# Altium schematic symbol library rtc_circuits.SchLib: 12 symbols
Pins are listed as number, name and electrical type; pins without a type are passive.

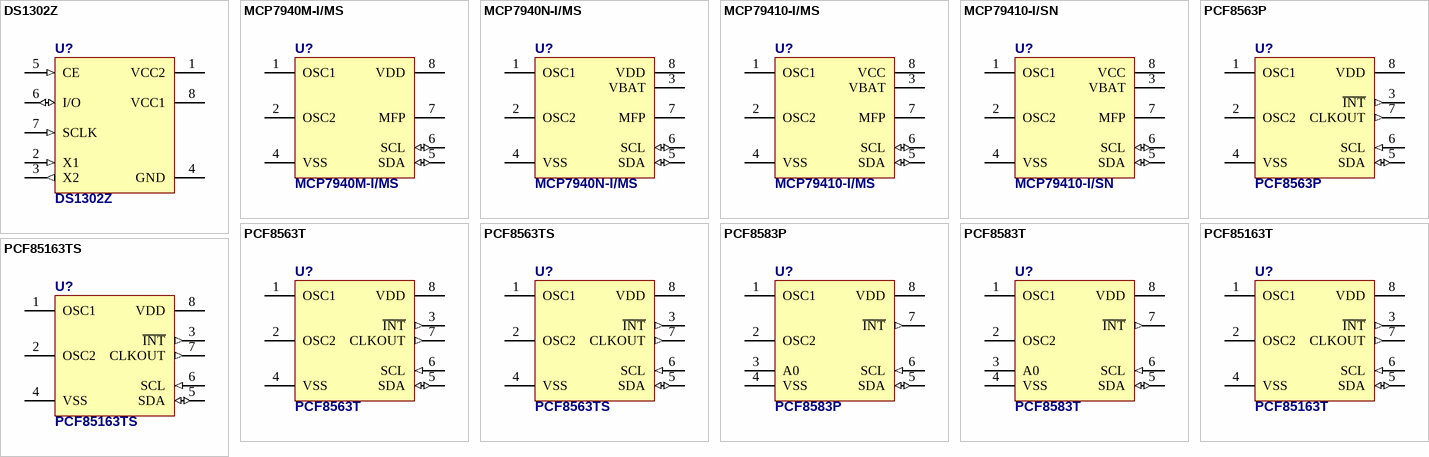
[diagram p0: symbols DS1302Z to PCF85163TS]

## DS1302Z
designator U?
Trickle-Charge Timekeeping Chip
footprint SO8 (Small Outline; 8 Leads; Body Width 3.7 mm; Pitch 1.27 mm)
pins: 1 VCC2, 2 X1 (in), 3 X2 (out), 4 GND (power), 5 CE (in), 6 I/O (io), 7 SCLK (in), 8 VCC1 (power)

## MCP7940M-I/MS
designator U?
Low-Cost I2C™ Real-Time Clock/Calendar with SRAM; Published: 19-Feb-2006; PackageReference: SO8; Supplier 1: Farnell; Supplier 2: TME; Supplier Part Number 1: 2098889; Supplier Part Number 2: MCP7940M-I/MS
footprint TSSOP8N
pins: 1 OSC1, 2 OSC2, 4 VSS (power), 5 SDA (io), 6 SCL (io), 7 MFP (oc), 8 VDD (power)

## MCP7940N-I/MS
designator U?
Low-Cost I2C™ Real-Time Clock/Calendar with SRAM and Battery Switchover; Published: 19-Feb-2006; PackageReference: SO8; Supplier 1: Farnell; Supplier 2: TME; Supplier Part Number 1: 2774923; Supplier Part Number 2: MCP7940N-I/MS
footprint TSSOP8N
pins: 1 OSC1, 2 OSC2, 3 VBAT (power), 4 VSS (power), 5 SDA (io), 6 SCL (io), 7 MFP (oc), 8 VDD (power)

## MCP79410-I/MS
designator U?
I2C™ Real-Time Clock/Calendar with EEPROM, SRAM, / Unique ID and Battery Switchover; Published: 19-Feb-2006; PackageReference: SO8
footprint MSOP8_0.65mm (0.65mm PITCH MSOP8)
pins: 1 OSC1, 2 OSC2, 3 VBAT, 4 VSS (power), 5 SDA (io), 6 SCL (io), 7 MFP (oc), 8 VCC (power)

## MCP79410-I/SN
designator U?
I2C™ Real-Time Clock/Calendar with EEPROM, SRAM, / Unique ID and Battery Switchover; Published: 19-Feb-2006; PackageReference: SO8
footprint SO8 (Small Outline; 8 Leads; Body Width 3.7 mm; Pitch 1.27 mm)
pins: 1 OSC1, 2 OSC2, 3 VBAT, 4 VSS (power), 5 SDA (io), 6 SCL (io), 7 MFP (oc), 8 VCC (power)

## PCF8563P
designator U?
Real-time clock/calendar; Published: 19-Feb-2006; PackageReference: SO8
footprint DIP8
pins: 1 OSC1, 2 OSC2, 3 ~{INT} (out), 4 VSS (power), 5 SDA (io), 6 SCL (in), 7 CLKOUT (out), 8 VDD (power)

## PCF8563T
designator U?
Real-time clock/calendar; Published: 19-Feb-2006; PackageReference: SO8
footprint SO8 (Small Outline; 8 Leads; Body Width 3.7 mm; Pitch 1.27 mm)
pins: 1 OSC1, 2 OSC2, 3 ~{INT} (out), 4 VSS (power), 5 SDA (io), 6 SCL (in), 7 CLKOUT (out), 8 VDD (power)

## PCF8563TS
designator U?
Real-time clock/calendar; Published: 19-Feb-2006; PackageReference: SO8
footprint TSSOP8N
pins: 1 OSC1, 2 OSC2, 3 ~{INT} (out), 4 VSS (power), 5 SDA (io), 6 SCL (in), 7 CLKOUT (out), 8 VDD (power)

## PCF8583P
designator U?
Clock/calendar with 240 x 8-bit RAM; Published: 19-Feb-2006; PackageReference: SO8
footprint DIP8
pins: 1 OSC1, 2 OSC2, 3 A0, 4 VSS (power), 5 SDA (io), 6 SCL (in), 7 ~{INT} (out), 8 VDD (power)

## PCF8583T
designator U?
Clock/calendar with 240 x 8-bit RAM; Published: 19-Feb-2006; PackageReference: SO8
footprint SO8 (Small Outline; 8 Leads; Body Width 3.7 mm; Pitch 1.27 mm)
pins: 1 OSC1, 2 OSC2, 3 A0, 4 VSS (power), 5 SDA (io), 6 SCL (in), 7 ~{INT} (out), 8 VDD (power)

## PCF85163T
designator U?
Real-time clock/calendar; Published: 19-Feb-2006; PackageReference: SO8; Supplier 1: TME; Supplier Part Number 1: PCF85163T
footprint SO8 (Small Outline; 8 Leads; Body Width 3.7 mm; Pitch 1.27 mm)
pins: 1 OSC1, 2 OSC2, 3 ~{INT} (out), 4 VSS (power), 5 SDA (io), 6 SCL (in), 7 CLKOUT (out), 8 VDD (power)

## PCF85163TS
designator U?
Real-time clock/calendar; Published: 19-Feb-2006; PackageReference: SO8; Supplier 1: TME; Supplier Part Number 1: PCF85163T
footprint TSSOP8 (JEDEC MO-153 AA (TSSOP-8))
pins: 1 OSC1, 2 OSC2, 3 ~{INT} (out), 4 VSS (power), 5 SDA (io), 6 SCL (in), 7 CLKOUT (out), 8 VDD (power)